# EAGLE library part ATSAM4S2AB-ANR (library johnmamish-microchip)
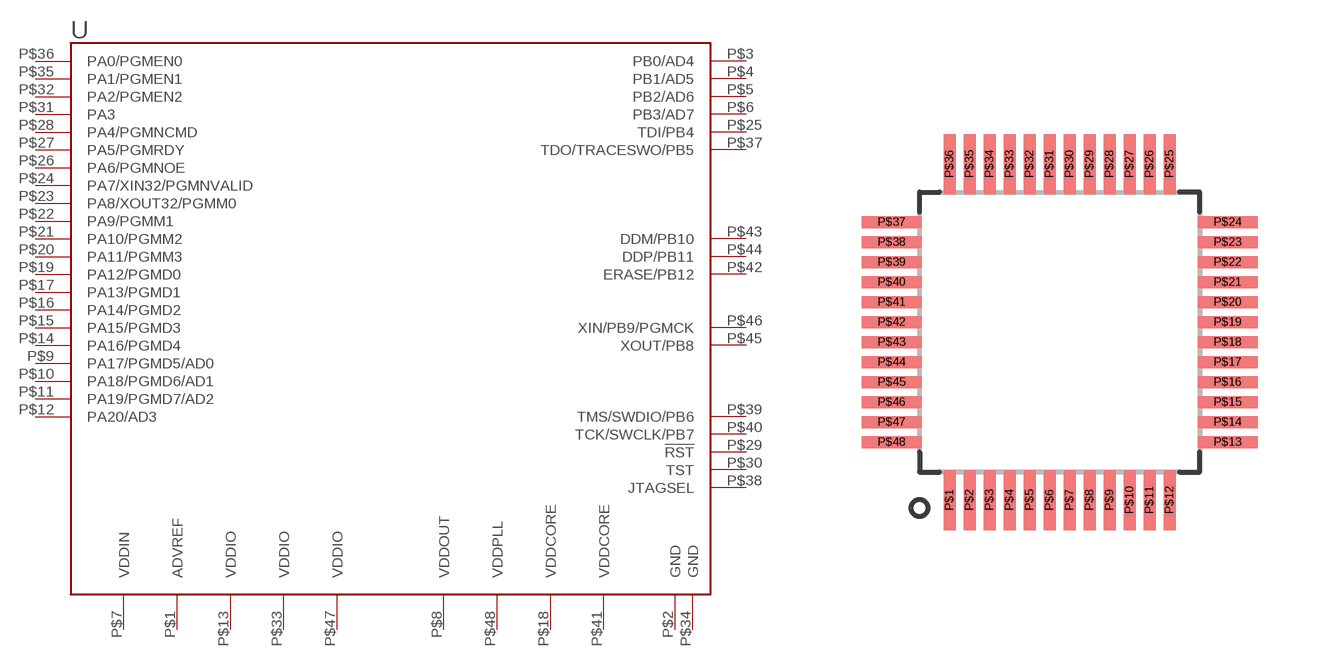
[diagram p7: symbol with the pads of LQFP48-7X7; footprint LQFP48-7X7]

Designator prefix U

## ATSAM4S2AB-ANR  [LQFP48-7X7]
P$1  ADVREF
P$2  GND
P$3  PB0/AD4
P$4  PB1/AD5
P$5  PB2/AD6
P$6  PB3/AD7
P$7  VDDIN
P$8  VDDOUT
P$9  PA17/PGMD5/AD0
P$10  PA18/PGMD6/AD1
P$11  PA19/PGMD7/AD2
P$12  PA20/AD3
P$13  VDDIO
P$14  PA16/PGMD4
P$15  PA15/PGMD3
P$16  PA14/PGMD2
P$17  PA13/PGMD1
P$18  VDDCORE
P$19  PA12/PGMD0
P$20  PA11/PGMM3
P$21  PA10/PGMM2
P$22  PA9/PGMM1
P$23  PA8/XOUT32/PGMM0
P$24  PA7/XIN32/PGMNVALID
P$25  TDI/PB4
P$26  PA6/PGMNOE
P$27  PA5/PGMRDY
P$28  PA4/PGMNCMD
P$29  !RST!
P$30  TST
P$31  PA3
P$32  PA2/PGMEN2
P$33  VDDIO
P$34  GND
P$35  PA1/PGMEN1
P$36  PA0/PGMEN0
P$37  TDO/TRACESWO/PB5
P$38  JTAGSEL
P$39  TMS/SWDIO/PB6
P$40  TCK/SWCLK/PB7
P$41  VDDCORE
P$42  ERASE/PB12
P$43  DDM/PB10
P$44  DDP/PB11
P$45  XOUT/PB8
P$46  XIN/PB9/PGMCK
P$47  VDDIO
P$48  VDDPLL

## Footprint LQFP48-7X7 (pad centres in mm)
smd 0.3 x 1.5: P$1 -2.75,-4.2; P$2 -2.25,-4.2; P$3 -1.75,-4.2; P$4 -1.25,-4.2; P$5 -0.75,-4.2; P$6 -0.25,-4.2; P$7 0.25,-4.2; P$8 0.75,-4.2; P$9 1.25,-4.2; P$10 1.75,-4.2; P$11 2.25,-4.2; P$12 2.75,-4.2; P$25 2.75,4.2; P$26 2.25,4.2; P$27 1.75,4.2; P$28 1.25,4.2; P$29 0.75,4.2; P$30 0.25,4.2; P$31 -0.25,4.2; P$32 -0.75,4.2; P$33 -1.25,4.2; P$34 -1.75,4.2; P$35 -2.25,4.2; P$36 -2.75,4.2
smd 1.5 x 0.3: P$13 4.2,-2.75; P$14 4.2,-2.25; P$15 4.2,-1.75; P$16 4.2,-1.25; P$17 4.2,-0.75; P$18 4.2,-0.25; P$19 4.2,0.25; P$20 4.2,0.75; P$21 4.2,1.25; P$22 4.2,1.75; P$23 4.2,2.25; P$24 4.2,2.75; P$37 -4.2,2.75; P$38 -4.2,2.25; P$39 -4.2,1.75; P$40 -4.2,1.25; P$41 -4.2,0.75; P$42 -4.2,0.25; P$43 -4.2,-0.25; P$44 -4.2,-0.75; P$45 -4.2,-1.25; P$46 -4.2,-1.75; P$47 -4.2,-2.25; P$48 -4.2,-2.75